# Altium footprint library connectors.PcbLib: 53 footprints (part 4 of 4)
Each footprint in its own frame and in the unit in brackets; x right, y up, seen from the top. Pads: shape width x height; smd on the part's side, far side on the other; paste and mask are expansions set on the pad; w line width, h text height; cw(c..) or ccw(c..) is an arc to the next point about the centre after c.
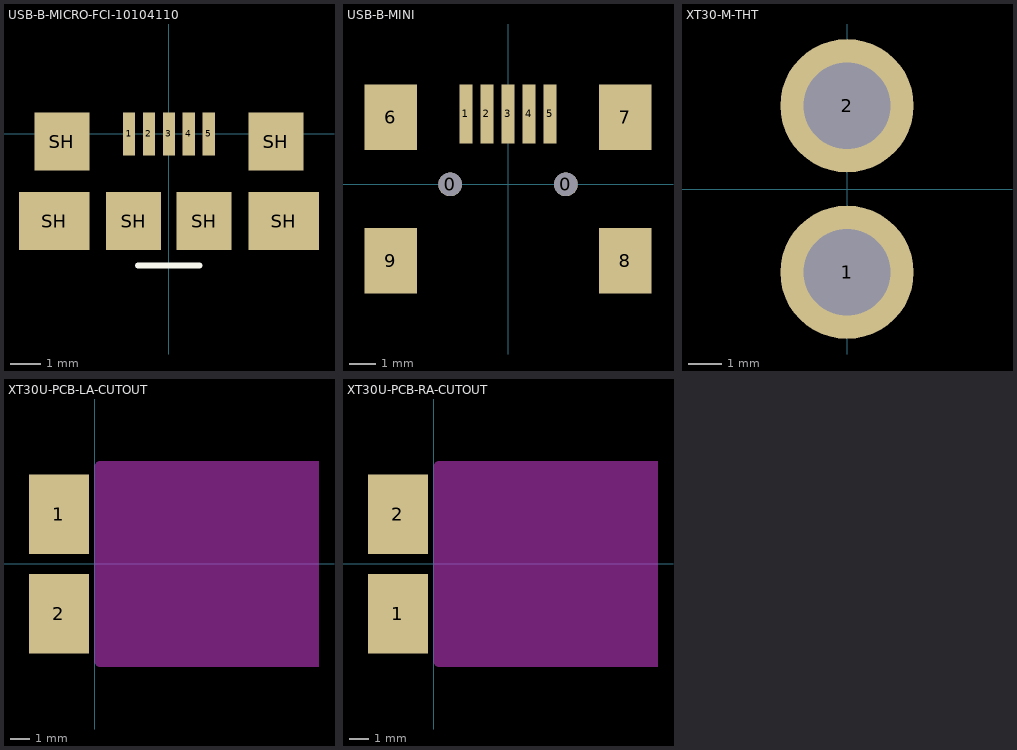
[diagram p3: the footprints below, top view; thin cyan lines are the x and y axes]

## USB-B-MICRO-FCI-10104110 [mm]
pads (11):
  rect 0.4x1.4 smd: 1(-1.3,0) 2(-0.65,0) 3(0,0) 4(0.65,0) 5(1.3,0)
  rect 2.3x1.9 smd: SH(-3.75,-2.85) SH(3.758,-2.85)
  rect 1.8x1.9 smd: SH(-3.5,-0.25) SH(-1.15,-2.85) SH(1.15,-2.85) SH(3.5,-0.25)
Top Overlay:
  lines w0.2: -1,-4.3 1,-4.3
3D body "User Library-10104110.step": height 2.68, standoff -0.35, extent -4.039,-5.555 4.04,0.009

## USB-B-MINI [mm]
pads (11):
  round 0.9 hole 0.9 unplated: 0(-2.2,0) 0(2.2,0)
  rect 0.5x2.25 smd: 1(-1.6,2.675) 2(-0.8,2.675) 3(0,2.675) 4(0.8,2.675) 5(1.6,2.675)
  rect 2x2.5 smd: 6(-4.45,2.55) 7(4.45,2.55) 8(4.45,-2.9) 9(-4.45,-2.9)
3D body "User Library-usb_mini_smd.step": height 4.15, standoff -0.94, extent -4.95,-5.9 4.95,3.3

## XT30-M-THT [mm]
pads (2):
  round 4 hole 2.6: 1(0,-2.5) 2(0,2.5)
3D body "XT30U-M.STEP": height 10.7, standoff -3, extent -2.8,-5.1 2.8,5.1

## XT30U-PCB-LA-CUTOUT [mm]
pads (2):
  rect 3x4 smd: 1(-1.8,2.5) 2(-1.8,-2.5)
Keep-Out Layer:
  board cut-out: 11.25,-5.15 11.25,5.15 0.25,5.15 0.2,5.15 0.108,5.112 0.038,5.042 0,4.95 0,4.9 0,-4.9 0,-4.95 0.038,-5.042 0.108,-5.112 0.2,-5.15 0.25,-5.15
3D body "XT30U-M-LA.STEP": height 2.82, standoff -2.79, extent -2.502,-5.1 11.202,5.1

## XT30U-PCB-RA-CUTOUT [mm]
pads (2):
  rect 3x4 smd: 1(-1.8,-2.5) 2(-1.8,2.5)
Keep-Out Layer:
  board cut-out: 11.25,-5.15 11.25,5.15 0.25,5.15 0.2,5.15 0.108,5.112 0.038,5.042 0,4.95 0,4.9 0,-4.9 0,-4.95 0.038,-5.042 0.108,-5.112 0.2,-5.15 0.25,-5.15
3D body "XT30U-M-RA.STEP": height 2.82, standoff -2.79, extent -2.501,-5.1 11.202,5.1